# Altium footprint library Voltage Regulator Footprints.PcbLib: 9 footprints
Each footprint in its own frame and in the unit in brackets; x right, y up, seen from the top. Pads: shape width x height; smd on the part's side, far side on the other; paste and mask are expansions set on the pad; w line width, h text height; cw(c..) or ccw(c..) is an arc to the next point about the centre after c.
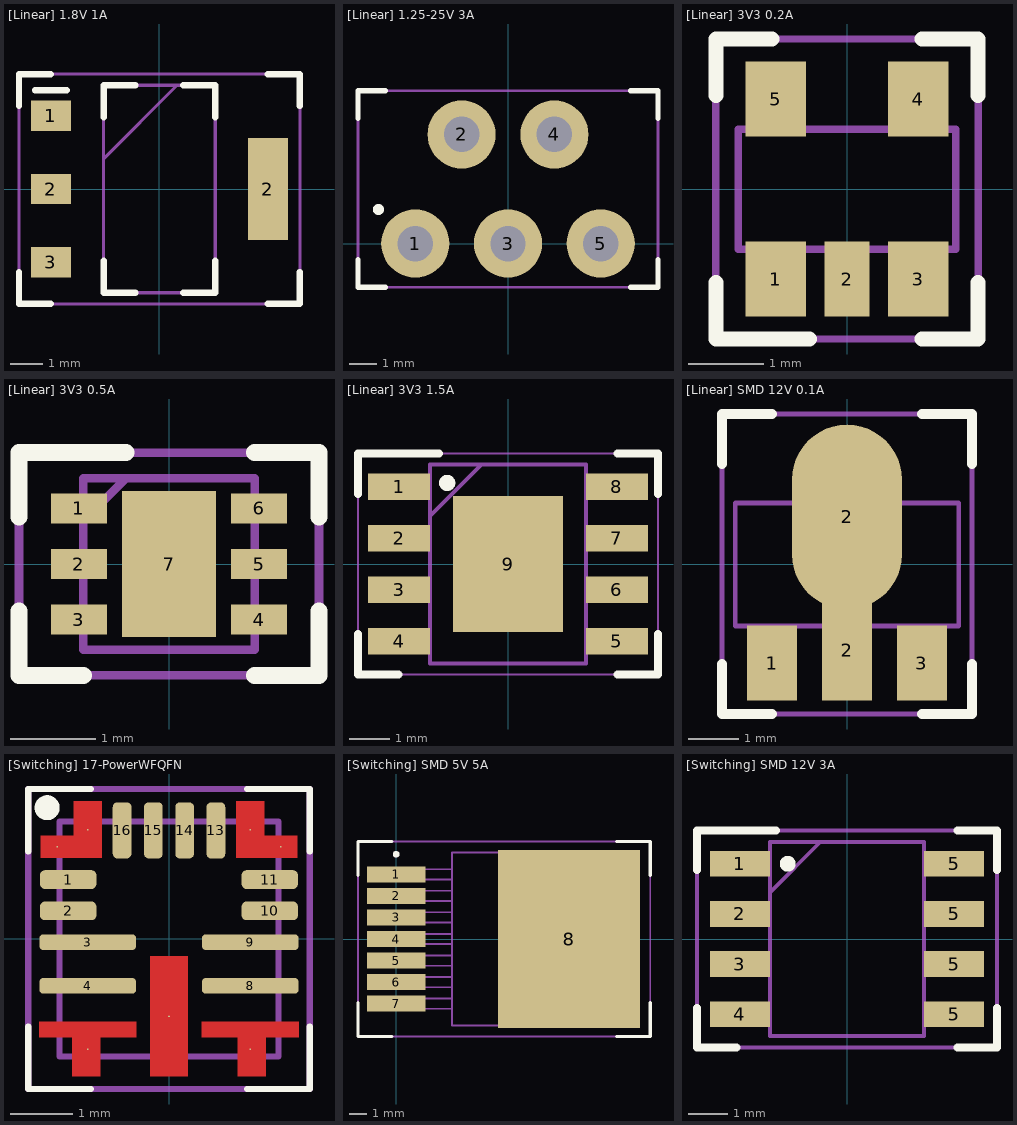
[diagram p0: the footprints below, top view; thin cyan lines are the x and y axes]

## [Linear] 1.8V 1A [mm] "NCP1117IST18T3G"
pads (4):
  rect 1.25x0.95 smd: 1(-3.4,2.3) 2(-3.4,0) 3(-3.4,-2.3)
  rect 1.25x3.2 smd: 2(3.4,0)
Top Overlay:
  lines w0.2: -4.4,-2.6 -4.4,-3.6 -3.4,-3.6 ; -4.4,2.6 -4.4,3.6 -3.4,3.6 ; -3.9,3.1 -2.9,3.1 ; -1.75,-2.25 -1.75,-3.25 -0.75,-3.25 ; -1.75,2.25 -1.75,3.25 -0.75,3.25 ; 0.75,-3.25 1.75,-3.25 1.75,-2.25 ; 0.75,3.25 1.75,3.25 1.75,2.25 ; 3.4,-3.6 4.4,-3.6 4.4,-2.6 ; 3.4,3.6 4.4,3.6 4.4,2.6
Physical Outline:
  lines w0.1: -1.75,0.95 0.55,3.25 ; -1.75,-3.25 1.75,-3.25 1.75,3.25 -1.75,3.25 -1.75,-3.25
Part Border:
  lines w0.1: -4.4,-3.6 4.4,-3.6 4.4,3.6 -4.4,3.6 -4.4,-3.6
3D body "NCP1117IST18T3G.stp": height 1.8, standoff 0, extent -3.5,-3.25 3.5,3.25

## [Linear] 1.25-25V 3A [mm] "MIC29302WT"
pads (5):
  round 2.5 hole 1.3: 1(-3.4,0) 2(-1.7,4) 3(0,0) 4(1.7,4) 5(3.4,0)
Top Overlay:
  circle w0.2: c-4.75,1.25 r0.1
  lines w0.2: -5.5,-0.6 -5.5,-1.6 -4.5,-1.6 ; -5.5,4.6 -5.5,5.6 -4.5,5.6 ; 4.5,-1.6 5.5,-1.6 5.5,-0.6 ; 4.5,5.6 5.5,5.6 5.5,4.6
Part Border:
  lines w0.1: -5.5,-1.6 -5.5,5.6 5.5,5.6 5.5,-1.6 -5.5,-1.6
3D body "LT3083ET#PBF.stp": height 21.54, standoff -8.13, extent -5.115,-0.134 5.108,8.579

## [Linear] 3V3 0.2A [mm] "TCR2EF33,LM(CT"
pads (5):
  rect 0.8x1 smd: 1(-0.95,-1.2) 3(0.95,-1.2) 4(0.95,1.2) 5(-0.95,1.2)
  rect 0.6x1 smd: 2(0,-1.2)
Top Overlay:
  lines w0.2: -1.75,-1.25 -1.75,-2 -0.5,-2 ; -1.75,1.25 -1.75,2 -1,2 ; 1,-2 1.75,-2 1.75,-1.25 ; 1,2 1.75,2 1.75,1.25
Physical Outline:
  lines w0.1: -1.45,-0.8 1.45,-0.8 1.45,0.8 -1.45,0.8 -1.45,-0.8
Part Border:
  lines w0.1: -1.75,-2 1.75,-2 1.75,2 -1.75,2 -1.75,-2
3D body "TCR2EF33,LM_CT.stp": height 1.4, standoff 0, extent -1.45,-1.44 1.45,1.36

## [Linear] 3V3 0.5A [mm] "NCV8705MT33TCG"
pads (7):
  rect 0.65x0.35 smd: 1(-1.05,0.65) 2(-1.05,0) 3(-1.05,-0.65) 4(1.05,-0.65) 5(1.05,0) 6(1.05,0.65)
  rect 1.1x1.7 smd: 7(0,0)
Top Overlay:
  lines w0.2: -1.75,-0.55 -1.75,-1.3 -1,-1.3 ; -1.75,0.55 -1.75,1.3 -0.5,1.3 ; 1,-1.3 1.75,-1.3 1.75,-0.55 ; 1,1.3 1.75,1.3 1.75,0.55
Physical Outline:
  lines w0.1: -1,0.5 -0.5,1 ; -1,-1 1,-1 1,1 -1,1 -1,-1
Part Border:
  lines w0.1: -1.75,-1.3 1.75,-1.3 1.75,1.3 -1.75,1.3 -1.75,-1.3
3D body "NCV8705MT33TCG.stp": height 0.8, standoff 0, extent -1.05,-1 1.05,1

## [Linear] 3V3 1.5A [mm]
pads (9):
  rect 1.525x0.65 smd: 1(-2.688,1.905) 2(-2.688,0.635) 3(-2.688,-0.635) 4(-2.688,-1.905) 5(2.688,-1.905) 6(2.688,-0.635) 7(2.688,0.635) 8(2.688,1.905)
  rect 2.71x3.35 smd: 9(0,0)
Top Overlay:
  circle w0.2: c-1.5,2 r0.1
  lines w0.2: -3.7,-1.725 -3.7,-2.725 -2.7,-2.725 ; -3.7,1.725 -3.7,2.725 -1.7,2.725 ; 2.7,-2.725 3.7,-2.725 3.7,-1.725 ; 2.7,2.725 3.7,2.725 3.7,1.725
Physical Outline:
  lines w0.1: -1.925,1.18 -0.655,2.45 ; -1.925,-2.45 1.925,-2.45 1.925,2.45 -1.925,2.45 -1.925,-2.45
Part Border:
  lines w0.05: -3.7,-2.725 3.7,-2.725 3.7,2.725 -3.7,2.725 -3.7,-2.725
3D body "AP7362A-33SP-13.stp": height 1.5, standoff 0, extent -3,-2.45 3,2.45

## [Linear] SMD 12V 0.1A [mm] "L78L12ACUTR"
pads (4):
  rect 1x1.5 smd paste-2 mask+0: 1(-1.499,-1.981) 3(1.499,-1.981)
  rect 1x2 smd paste-2 mask+0: 2(0,-1.727)
  oval 2.2x3.7 smd paste-3: 2(0,0.94)
Top Overlay:
  lines w0.2: -2.5,-2 -2.5,-3 -1.5,-3 ; -2.5,2 -2.5,3 -1.5,3 ; 1.5,-3 2.5,-3 2.5,-2 ; 1.5,3 2.5,3 2.5,2
Top Paste:
  region: 0.4,-2.68 -0.4,-2.68 -0.4,-1.28 0.4,-1.28
  region: 1.9,-2.68 1.1,-2.68 1.1,-1.28 1.9,-1.28
  region: -1.1,-2.68 -1.9,-2.68 -1.9,-1.28 -1.1,-1.28
  region: 0.9,0 -0.9,0 -0.9,2.2 0.9,2.2
Top Solder:
  region: -0.975,-2.775 -2.025,-2.775 -2.025,-1.2 -0.975,-1.2
  region: 2.025,-2.775 0.975,-2.775 0.975,-1.2 2.025,-1.2
  region: 0.525,-2.775 -0.525,-2.775 -0.525,-1.2 0.525,-1.2
Physical Outline:
  region: 0.787,1.575 0.787,1.219 -0.787,1.219 -0.787,1.575 -0.356,2.007 0.356,2.007
  region: -1.27,-2.108 -1.727,-2.108 -1.727,-1.27 -1.27,-1.27
  region: 1.727,-2.108 1.27,-2.108 1.27,-1.27 1.727,-1.27
  region: 0.279,-2.108 -0.279,-2.108 -0.279,-1.27 0.279,-1.27
  lines w0.1: -0.787,1.219 -0.787,1.575 -0.356,2.007 0.356,2.007 0.787,1.575 0.787,1.219 ; -2.235,-1.245 -2.235,1.219 2.235,1.219 2.235,-1.245 -2.235,-1.245
Part Border:
  lines w0.1: -2.5,-3 -2.5,3 2.5,3 2.5,-3 -2.5,-3
3D body "step_temp.STEP": height 1.6, standoff 0, extent -2.25,-2.268 2.25,1.827

## [Switching] 17-PowerWFQFN [mm]
pads (21):
  rrect50% 0.9x0.3 smd: 1(-1.612,0.95) 2(-1.612,0.45) 10(1.612,0.45) 11(1.612,0.95)
  rrect50% 1.55x0.25 smd: 3(-1.299,-0.05) 4(-1.299,-0.75) 8(1.3,-0.75) 9(1.3,-0.05)
  round 0.025 smd: 5(-1.3,-1.763) 6(0,-1.238) 7(1.3,-1.763) 12(1.3,1.75) 12(1.787,1.475) 17(-1.788,1.475) 17(-1.3,1.75)
  rect 0.127x0.127 smd paste-0.064 mask-0.064: 10(1.612,0.45) 11(1.612,0.95)
  rrect50% 0.3x0.9 smd: 13(0.75,1.736) 14(0.25,1.736) 15(-0.25,1.737) 16(-0.75,1.737)
Top Layer:
  region: -0.3,-0.275 0.3,-0.275 0.3,-2.2 -0.3,-2.2
  region: -1.1,-1.575 -0.525,-1.575 -0.525,-1.325 -2.075,-1.325 -2.075,-1.575 -1.55,-1.575 -1.55,-2.2 -1.1,-2.2
  region: 1.1,-1.575 0.525,-1.575 0.525,-1.325 2.075,-1.325 2.075,-1.575 1.55,-1.575 1.55,-2.2 1.1,-2.2
  region: -1.525,1.65 -1.525,1.3 -1.075,1.3 -1.075,2.2 -1.525,2.2
  region: -2.05,1.65 -1.525,1.65 -1.525,1.3 -2.05,1.3
  region: 1.525,1.65 1.525,1.3 1.075,1.3 1.075,2.2 1.525,2.2
  region: 2.05,1.65 1.525,1.65 1.525,1.3 2.05,1.3
Top Overlay:
  circle w0.2: c-1.95,2.1 r0.1
  lines w0.1: -2.25,-1.4 -2.25,-2.4 -1.25,-2.4 ; -2.25,1.4 -2.25,2.4 -1.25,2.4 ; 1.25,-2.4 2.25,-2.4 2.25,-1.4 ; 1.25,2.4 2.25,2.4 2.25,1.4
Physical Outline:
  lines w0.1: -1.753,1.88 1.753,1.88 ; -1.75,1.88 -1.75,-1.88 1.75,-1.88 1.75,1.88
Part Border:
  lines w0.1: -2.25,-2.4 2.25,-2.4 2.25,2.4 -2.25,2.4 -2.25,-2.4
3D body "[Reg] 0.8-10V Adjustable Buck.step": height 0.8, standoff 0, extent -1.75,-1.875 1.75,1.875

## [Switching] SMD 5V 5A [mm] "LM2677SX-5.0/NOPB"
height 5
pads (8):
  rect 3.45x0.94 smd: 1(0,3.81) 2(0,2.54) 3(0,1.27) 4(0,0) 5(0,-1.27) 6(0,-2.54) 7(0,-3.81)
  rect 8.4x10.5 smd: 8(10.2,0)
Top Overlay:
  circle w0.2: c0,5 r0.1
  lines w0.2: -2.25,-3.75 -2.25,-5.75 -0.25,-5.75 ; -2.25,3.75 -2.25,5.75 -0.25,5.75 ; 13,-5.75 15,-5.75 15,-3.75 ; 13,5.75 15,5.75 15,3.75
Physical Outline:
  lines w0.1: 3.3,-4.11 -1,-4.11 -1,-3.51 3.3,-3.51 ; 3.3,-2.84 -1,-2.84 -1,-2.24 3.3,-2.24 ; 3.3,-1.57 -1,-1.57 -1,-0.97 3.3,-0.97 ; 3.3,-0.3 -1,-0.3 -1,0.3 3.3,0.3 ; 3.3,0.97 -1,0.97 -1,1.57 3.3,1.57 ; 3.3,2.24 -1,2.24 -1,2.84 3.3,2.84 ; 3.3,3.51 -1,3.51 -1,4.11 3.3,4.11 ; 3.3,-5.1 3.3,5.1 13.5,5.1 13.5,-5.1 3.3,-5.1
Part Border:
  lines w0.1: -2.25,-5.75 -2.25,5.75 15,5.75 15,-5.75 -2.25,-5.75
3D body "[Switching] SMD 5V 5A.stp": height 4.77, standoff 0.05, extent -0.9,-5.08 13.4,5.08

## [Switching] SMD 12V 3A [mm] "XL1509-12-EV"
pads (8):
  rect 1.528x0.65 smd: 1(-2.711,1.905) 2(-2.711,0.635) 3(-2.711,-0.635) 4(-2.711,-1.905) 5(2.711,-1.905) 5(2.711,-0.635) 5(2.711,0.635) 5(2.711,1.905)
Top Overlay:
  circle w0.2: c-1.5,1.905 r0.1
  lines w0.2: -3.8,-1.75 -3.8,-2.75 -2.8,-2.75 ; -3.8,1.75 -3.8,2.75 -1.8,2.75 ; 2.8,-2.75 3.8,-2.75 3.8,-1.75 ; 2.8,2.75 3.8,2.75 3.8,1.75
Physical Outline:
  lines w0.1: -1.948,1.182 -0.678,2.452 ; -1.948,-2.452 1.948,-2.452 1.948,2.452 -1.948,2.452 -1.948,-2.452
Part Border:
  lines w0.1: -3.8,-2.75 3.8,-2.75 3.8,2.75 -3.8,2.75 -3.8,-2.75
3D body "TMCS1100A3QDR.stp": height 1.63, standoff 0, extent -3.011,-2.451 3.011,2.451